# Altium footprint library Capacitors_rus.PCBLIB: 349 footprints (part 4 of 22)
Each footprint in its own frame and in the unit in brackets; x right, y up, seen from the top. Pads: shape width x height; smd on the part's side, far side on the other; paste and mask are expansions set on the pad; w line width, h text height; cw(c..) or ccw(c..) is an arc to the next point about the centre after c.
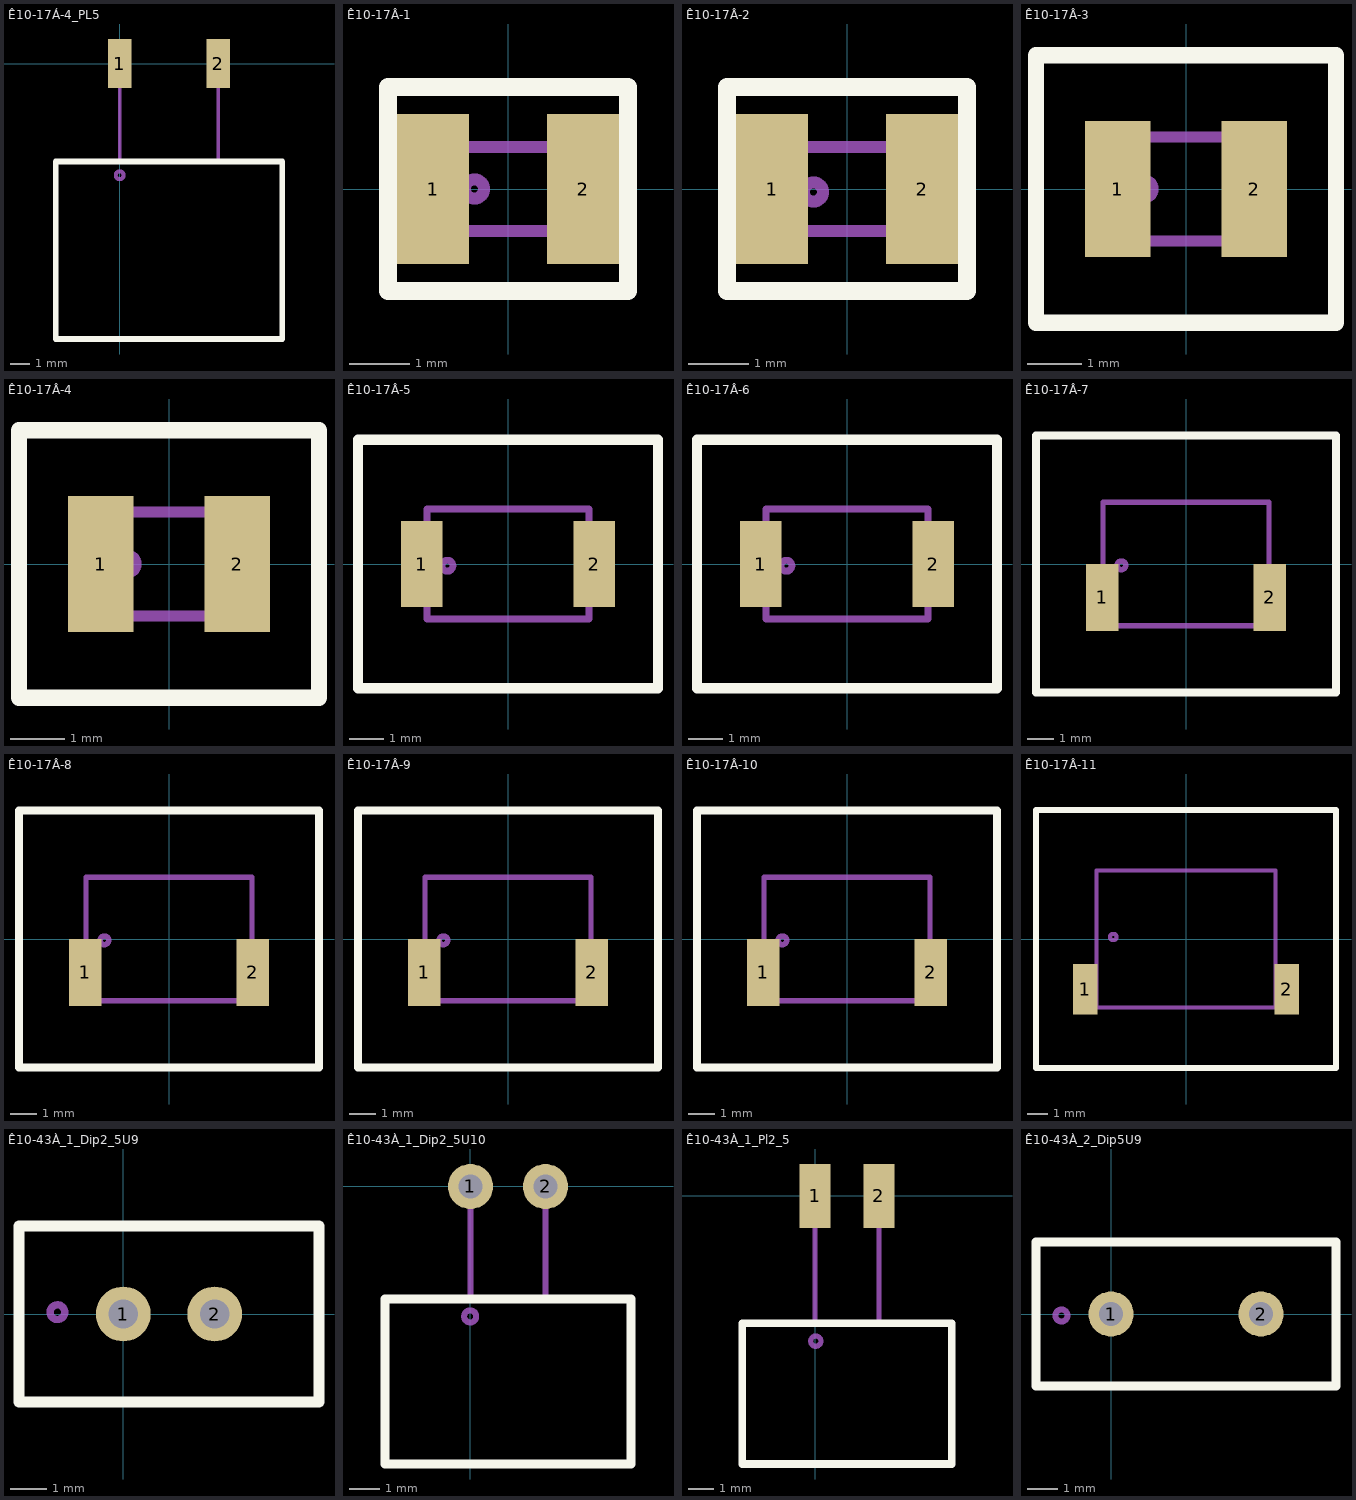
[diagram p3: the footprints below, top view; thin cyan lines are the x and y axes]

## Ê10-17Á-4_PL5 [mm]
pads (2):
  rect 1.2x2.5 smd: 1(0,0) 2(5,0)
Top Overlay:
  lines w0.3: -3.25,-13.975 8.25,-13.975 8.25,-4.975 -3.25,-4.975 -3.25,-13.975
Mechanical 1:
  circle w0.2: c-0.005,-5.67 r0.2
  lines w0.2: -3.25,-13.985 8.25,-13.975 8.25,-4.975 -3.25,-4.975 -3.25,-13.975 ; 0,-5.005 0,0 ; 5,-5.005 5,0
  text ".Designator" at 0.43,-9.95 h1.5

## Ê10-17Â-1 [mm]
height 1.2
pads (2):
  rect 1.2x2.5 smd: 1(-1.25,0) 2(1.25,0)
Top Overlay:
  lines w0.3: -2,-1.7 2,-1.7 2,1.7 -2,1.7 -2,-1.7
Mechanical 1:
  circle w0.2: c-0.56,0 r0.16
  lines w0.2: -1,-0.7 1,-0.7 1,0.7 -1,0.7 -1,-0.7
  text ".Designator" at -1.02,1.1 h1.5
3D body: height 1.2, standoff 0, extent -1,-0.7 1,0.7

## Ê10-17Â-2 [mm]
height 1.4
pads (2):
  rect 1.2x2.5 smd: 1(-1.25,0) 2(1.25,0)
Top Overlay:
  lines w0.3: -2,-1.7 -2,1.7 2,1.7 2,-1.7 -2,-1.7
Mechanical 1:
  circle w0.2: c-0.56,-0.05 r0.16
  lines w0.2: -1,-0.7 -1,0.7 1,0.7 1,-0.7 -1,-0.7
  text ".Designator" at -1.22,1.15 h1.5
3D body: height 1.4, standoff 0, extent -1,-0.7 1,0.7

## Ê10-17Â-3 [mm]
height 1.2
pads (2):
  rect 1.2x2.5 smd: 1(-1.25,0) 2(1.25,0)
Top Overlay:
  lines w0.3: -2.75,-2.45 -2.75,2.45 2.75,2.45 2.75,-2.45 -2.75,-2.45
Mechanical 1:
  circle w0.2: c-0.76,0 r0.16
  lines w0.2: -1.35,-0.95 -1.35,0.95 1.35,0.95 1.35,-0.95 -1.35,-0.95
  text ".Designator" at -1.52,1.4 h1.5
3D body: height 1.2, standoff 0, extent -1.35,-0.95 1.35,0.95

## Ê10-17Â-4 [mm]
height 1.6
pads (2):
  rect 1.2x2.5 smd: 1(-1.25,0) 2(1.25,0)
Top Overlay:
  lines w0.3: -2.75,-2.45 -2.75,2.45 2.75,2.45 2.75,-2.45 -2.75,-2.45
Mechanical 1:
  circle w0.2: c-0.76,0 r0.16
  lines w0.2: -1.35,-0.95 -1.35,0.95 1.35,0.95 1.35,-0.95 -1.35,-0.95
  text ".Designator" at -1.52,1.4 h1.5
3D body: height 1.6, standoff 0, extent -1.35,-0.95 1.35,0.95

## Ê10-17Â-5 [mm]
height 1.2
pads (2):
  rect 1.2x2.5 smd: 1(-2.5,0) 2(2.5,0)
Top Overlay:
  lines w0.3: -4.35,-3.6 -4.35,3.6 4.35,3.6 4.35,-3.6 -4.35,-3.6
Mechanical 1:
  circle w0.2: c-1.76,-0.05 r0.16
  lines w0.2: -2.35,-1.6 2.35,-1.6 2.35,1.6 -2.35,1.6 -2.35,-1.6
  text ".Designator" at -1.02,-0.4 h1.5
3D body: height 1.2, standoff 0, extent -2.35,-1.6 2.35,1.6

## Ê10-17Â-6 [mm]
height 2
pads (2):
  rect 1.2x2.5 smd: 1(-2.5,0) 2(2.5,0)
Top Overlay:
  lines w0.3: -4.35,-3.6 -4.35,3.6 4.35,3.6 4.35,-3.6 -4.35,-3.6
Mechanical 1:
  circle w0.2: c-1.76,-0.05 r0.16
  lines w0.2: -2.35,-1.6 2.35,-1.6 2.35,1.6 -2.35,1.6 -2.35,-1.6
  text ".Designator" at -1.02,-0.4 h1.5
3D body: height 2, standoff 0, extent -2.35,-1.6 2.35,1.6

## Ê10-17Â-7 [mm]
height 1.2
pads (2):
  rect 1.2x2.5 smd: 1(-3.125,-1.25) 2(3.125,-1.25)
Top Overlay:
  lines w0.3: -5.6,-4.8 -5.6,4.8 5.6,4.8 5.6,-4.8 -5.6,-4.8
Mechanical 1:
  circle w0.2: c-2.41,-0.05 r0.16
  lines w0.2: -3.1,-2.3 -3.1,2.3 3.1,2.3 3.1,-2.3 -3.1,-2.3
  text ".Designator" at -1.32,-0.35 h1.5
3D body: height 1.2, standoff 0, extent -3.1,-2.3 3.1,2.3

## Ê10-17Â-8 [mm]
height 1
pads (2):
  rect 1.2x2.5 smd: 1(-3.125,-1.25) 2(3.125,-1.25)
Top Overlay:
  lines w0.3: -5.6,-4.8 5.6,-4.8 5.6,4.8 -5.6,4.8 -5.6,-4.8
Mechanical 1:
  circle w0.2: c-2.41,-0.05 r0.16
  lines w0.2: -3.1,-2.3 3.1,-2.3 3.1,2.3 -3.1,2.3 -3.1,-2.3
  text ".Designator" at -1.32,-0.35 h1.5
3D body: height 1.5, standoff 0, extent -3.1,-2.3 3.1,2.3

## Ê10-17Â-9 [mm]
height 2
pads (2):
  rect 1.2x2.5 smd: 1(-3.125,-1.25) 2(3.125,-1.25)
Top Overlay:
  lines w0.3: -5.6,-4.8 -5.6,4.8 5.6,4.8 5.6,-4.8 -5.6,-4.8
Mechanical 1:
  circle w0.2: c-2.41,-0.05 r0.16
  lines w0.2: -3.1,-2.3 -3.1,2.3 3.1,2.3 3.1,-2.3 -3.1,-2.3
  text ".Designator" at -1.32,-0.35 h1.5
3D body: height 2, standoff 0, extent -3.1,-2.3 3.1,2.3

## Ê10-17Â-10 [mm]
height 2.4
pads (2):
  rect 1.2x2.5 smd: 1(-3.125,-1.25) 2(3.125,-1.25)
Top Overlay:
  lines w0.3: -5.6,-4.8 -5.6,4.8 5.6,4.8 5.6,-4.8 -5.6,-4.8
Mechanical 1:
  circle w0.2: c-2.41,-0.05 r0.16
  lines w0.2: -3.1,-2.3 -3.1,2.3 3.1,2.3 3.1,-2.3 -3.1,-2.3
  text ".Designator" at -1.32,-0.35 h1.5
3D body: height 2.4, standoff 0, extent -3.1,-2.3 3.1,2.3

## Ê10-17Â-11 [mm]
height 2
pads (2):
  rect 1.2x2.5 smd: 1(-5,-2.5) 2(5,-2.5)
Top Overlay:
  lines w0.3: -7.45,-6.4 -7.45,6.4 7.45,6.4 7.45,-6.4 -7.45,-6.4
Mechanical 1:
  circle w0.2: c-3.61,0.1 r0.16
  lines w0.2: -4.45,-3.4 -4.45,3.4 4.45,3.4 4.45,-3.4 -4.45,-3.4
  text ".Designator" at -2.12,-0.3 h1.5
3D body: height 2, standoff 0, extent -4.45,-3.4 4.45,3.4

## Ê10-43À_1_Dip2_5U9 [mm]
height 6.5
pads (2):
  round 1.5 hole 0.8: 1(0,0) 2(2.5,0)
Top Overlay:
  lines w0.3: -2.85,-2.4 -2.85,2.4 5.35,2.4 5.35,-2.4 -2.85,-2.4
Mechanical 1:
  circle w0.2: c-1.8,0.05 r0.2
  lines w0.2: -2.85,-2.4 -2.85,2.4 5.35,2.4 5.35,-2.4 -2.85,-2.4
  text ".Designator" at -0.37,-0.3 h1.5

## Ê10-43À_1_Dip2_5U10 [mm]
height 4.8
pads (2):
  round 1.5 hole 0.8: 1(0,0) 2(2.5,0)
Top Overlay:
  lines w0.3: -2.85,-9.25 5.35,-9.25 5.35,-3.75 -2.85,-3.75 -2.85,-9.25
Mechanical 1:
  circle w0.2: c-0.01,-4.33 r0.2
  lines w0.2: -2.86,-9.25 -2.85,-3.75 5.36,-3.75 ; -2.85,-9.25 5.35,-9.25 5.35,-3.75 ; 0,-3.75 0,0 ; 2.5,-3.77 2.5,0
  text ".Designator" at -0.97,-6.85 h1.5

## Ê10-43À_1_Pl2_5 [mm]
height 4.8
pads (2):
  rect 1.2x2.5 smd: 1(0,0) 2(2.5,0)
Top Overlay:
  lines w0.3: -2.85,-10.475 5.35,-10.475 5.35,-4.975 -2.85,-4.975 -2.85,-10.475
Mechanical 1:
  circle w0.2: c0.03,-5.675 r0.2
  lines w0.2: 0,-4.99 0,0 ; 2.5,-5 2.5,0 ; -2.85,-10.475 5.35,-10.475 5.35,-4.975 -2.85,-4.975 -2.85,-10.475
  text ".Designator" at -1.12,-8.05 h1.5

## Ê10-43À_2_Dip5U9 [mm]
height 6.5
pads (2):
  round 1.5 hole 0.8: 1(0,0) 2(5,0)
Top Overlay:
  lines w0.3: -2.5,-2.4 -2.5,2.4 7.5,2.4 7.5,-2.4 -2.5,-2.4
Mechanical 1:
  circle w0.2: c-1.65,-0.05 r0.2
  lines w0.2: -2.5,-2.4 -2.5,2.4 7.5,2.4 7.5,-2.4 -2.5,-2.4
  text ".Designator" at 0.13,-0.35 h1.5